# Altium schematic symbol library RES 10M 1_10W.SCHLIB: 1 symbol
Pins are listed as number, name and electrical type; pins without a type are passive.

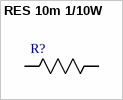
[diagram p0: symbol RES 10m 1/10W]

## RES 10m 1/10W
designator R?, comment 10M  (value not drawn)
RES 10M OHM 1% 1/10W 0603; Part Number: RES 10m 1/10W; Power (Watts): 0.125W; Tolerance: 5%; Package: 0805; Value: 10M
footprint 0805
footprint 0603
pins: 1 R1, 2 R2